# Altium schematic symbol library adafruit_2045.SchLib: 1 symbol
Pins are listed as number, name and electrical type; pins without a type are passive.

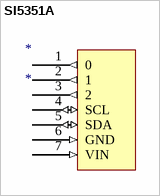
[diagram p0: symbol SI5351A]

## SI5351A
designator *
pins: 1 0 (out), 2 1 (out), 3 2 (out), 4 SCL (io), 5 SDA (io), 6 GND (in), 7 VIN (in)